# EAGLE library part ARDUINO_PRO_MICRO (library ghoust)
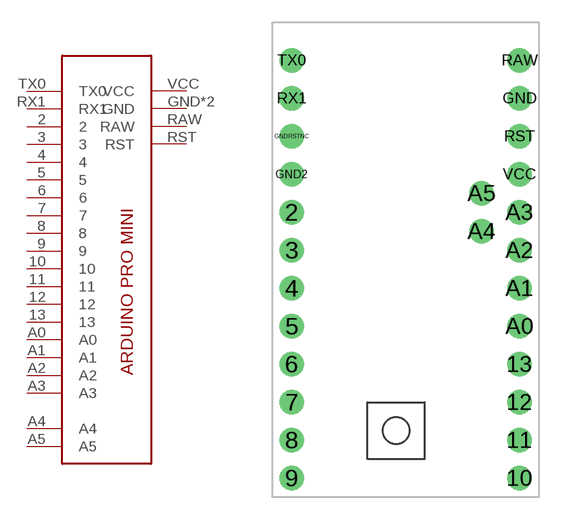
[diagram p3: symbol with the pads of APM_PAC; footprint APM_PAC]

Designator prefix -

## ARDUINO_PRO_MICRO  [APM_PAC]
2  2
3  3
4  4
5  5
6  6
7  7
8  8
9  9
10  10
11  11
12  12
13  13
A0  A0
A1  A1
A2  A2
A3  A3
A4  A4
A5  A5
GND  GND
GND2  GND
RAW  RAW
RST  RST
RX1  RX1
TX0  TX0
VCC  VCC

## Footprint APM_PAC (pad centres in mm)
drill 1.1: 2 -7.62,-1.27; 3 -7.62,-3.81; 4 -7.62,-6.35; 5 -7.62,-8.89; 6 -7.62,-11.43; 7 -7.62,-13.97; 8 -7.62,-16.51; 9 -7.62,-19.05; 10 7.62,-19.05; 11 7.62,-16.51; 12 7.62,-13.97; 13 7.62,-11.43; A0 7.62,-8.89; A1 7.62,-6.35; A2 7.62,-3.81; A3 7.62,-1.27; A4 5.08,-2.54; A5 5.08,0; GND 7.62,6.35; GND2 -7.62,1.27; GNDRSTNC -7.62,3.81; RAW 7.62,8.89; RST 7.62,3.81; RX1 -7.62,6.35; TX0 -7.62,8.89; VCC 7.62,1.27